# EAGLE library part TPS2561 (library RitLaunchInitiative)
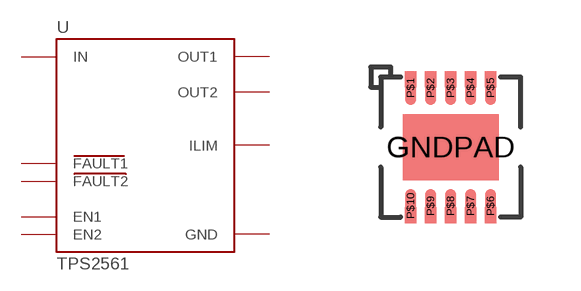
[diagram p7: symbol with the pads of 10-VFDFN; footprint 10-VFDFN]

Designator prefix U

## TPS2561  [10-VFDFN]
GNDPAD  GND
P$1  GND
P$2  IN
P$3  IN
P$4  EN1
P$5  EN2
P$6  FAULT2
P$7  ILIM
P$8  OUT2
P$9  OUT1
P$10  FAULT1

## Footprint 10-VFDFN (pad centres in mm)
smd 2.4 x 1.65: GNDPAD 0,0
smd 0.28 x 0.85: P$1 -1,1.475; P$2 -0.5,1.475; P$3 0,1.475; P$4 0.5,1.475; P$5 1,1.475; P$6 1,-1.475; P$7 0.5,-1.475; P$8 0,-1.475; P$9 -0.5,-1.475; P$10 -1,-1.475